# Altium footprint library chicken.PcbLib: 11 footprints
Each footprint in its own frame and in the unit in brackets; x right, y up, seen from the top. Pads: shape width x height; smd on the part's side, far side on the other; paste and mask are expansions set on the pad; w line width, h text height; cw(c..) or ccw(c..) is an arc to the next point about the centre after c.
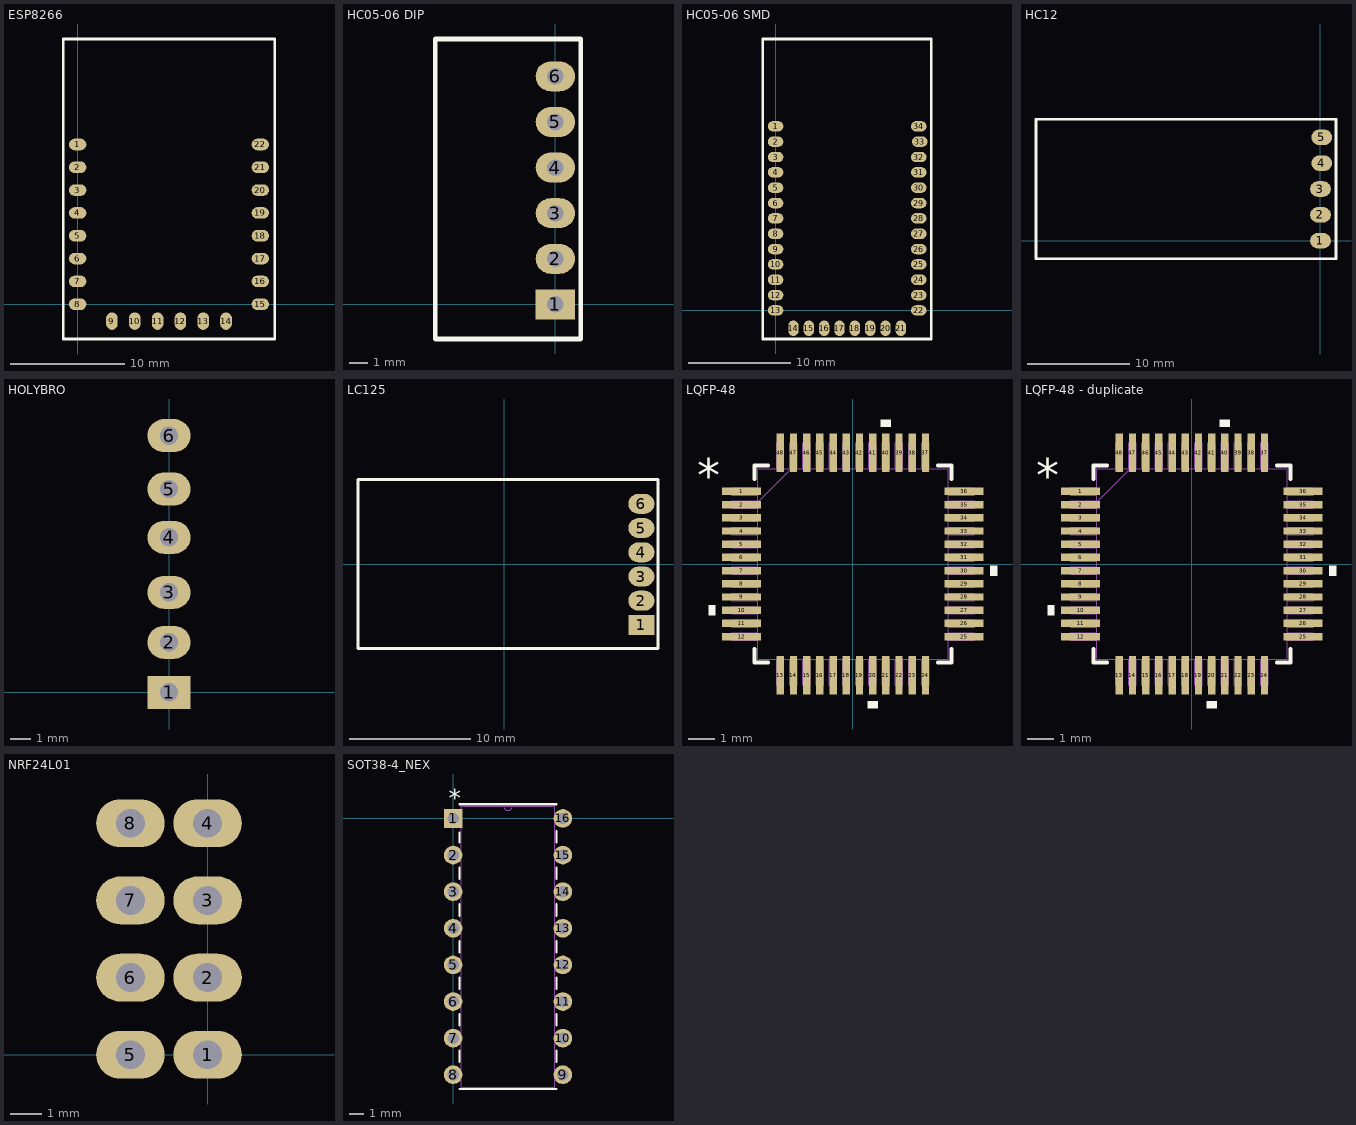
[diagram p0: the footprints below, top view; thin cyan lines are the x and y axes]

## ESP8266 [mil]
pads (22):
  oval 60x40 smd: 1(0,551.18) 2(0,472.44) 3(0,393.7) 4(0,314.96) 5(0,236.22) 6(0,157.48) 7(0,78.74) 8(0,0) 15(629.92,0) 16(629.92,78.74) 17(629.92,157.48) 18(629.92,236.22) 19(629.92,314.96) 20(629.92,393.7) 21(629.92,472.44) 22(629.92,551.18)
  oval 40x60 smd: 9(118.11,-58.27) 10(196.85,-58.27) 11(275.59,-58.27) 12(354.33,-58.27) 13(433.07,-58.27) 14(511.81,-58.27)
Top Overlay:
  lines w10: -50,-120 -50,915 -25,915 680,915 680,-120 -50,-120
3D body "EPS8266 ESP-12F.STEP": height 104.33, standoff -1.38, extent -5.16,-62.63 625.16,882.44

## HC05-06 DIP [mil]
pads (6):
  rect 85x65 hole 36: 1(0,0)
  oval 85x65 hole 36: 2(0,98.82) 3(0,197.64) 4(0,296.46) 5(0,395.28) 6(0,494.09)
Top Overlay:
  lines w10: -260,-75 -260,565 -260,575 30,575 55,575 55,-75 -260,-75
3D body "HC-05.STEP": height 1633.86, standoff -42.65, extent -247.87,-64.96 10,564.96

## HC05-06 SMD [mil]
pads (34):
  oval 60x40 smd: 1(0,708.66) 2(0,649.61) 3(0,590.55) 4(0,531.5) 5(0,472.44) 6(0,413.39) 7(0,354.33) 8(0,295.28) 9(0,236.22) 10(0,177.17) 11(0,118.11) 12(0,59.06) 13(0,0) 22(551.18,0) 23(551.18,59.06) 24(551.18,118.11) 25(551.18,177.17) 26(551.18,236.22) 27(551.18,295.28) 28(551.18,354.33) 29(551.18,413.39) 30(551.18,472.44) 31(551.18,531.5) 32(551.18,590.55) 33(555,649.61) 34(551.18,708.66)
  oval 40x60 smd: 14(68.9,-68.9) 15(127.95,-68.9) 16(187.01,-68.9) 17(246.06,-68.9) 18(305.12,-68.9) 19(364.17,-68.9) 20(423.23,-68.9) 21(482.28,-68.9)
Top Overlay:
  lines w10: -50,-110 -50,1045 -25,1045 600,1045 600,-100 600,-110 -50,-110
3D body "Bluetooth HC-06_.STEP": height 92.52, standoff 0, extent 0,-70 551.97,1032.76

## HC12 [mil] "HC12"
pads (5):
  oval 80x60 smd: 1(0,0) 2(0,100) 3(0,200) 4(5,300) 5(5,400)
Top Overlay:
  lines w10: -1100,-70 -1100,470 60,470 60,-70 -1100,-70
3D body "HC-12 SI4463 WIRELESS SERIAL MODULE.STEP": height 1019.68, standoff 0, extent -1090.46,-61.81 0,461.81

## HOLYBRO [mil]
pads (6):
  rect 85x65 hole 36: 1(0,0)
  oval 85x65 hole 36: 2(0,98.43) 3(0,196.85) 4(0,305) 5(0,400) 6(0,505)
3D body "JST - XH - Thru (V) - 6Pin - 2.54mm.stp": height 303.69, standoff -98.31, extent -100,-92 130,592

## LC125 [mil]
pads (6):
  rect 85x65 smd: 1(446.22,-198.11)
  oval 85x65 smd: 2(446.22,-119.37) 3(446.22,-40.63) 4(446.22,38.11) 5(446.22,116.85) 6(446.22,195.59)
Top Overlay:
  lines w10: -475,-275 -475,275 500,275 500,-275 -475,-275
3D body "LC12S.STEP": height 78.74, standoff 0, extent -473.31,-268.08 444.01,271.3

## LQFP-48 [mil]
pads (48):
  rect 58x11 smd: 1(-166,108.27) 2(-166,88.58) 3(-166,68.9) 4(-166,49.21) 5(-166,29.53) 6(-166,9.84) 7(-166,-9.84) 8(-166,-29.53) 9(-166,-49.21) 10(-166,-68.9) 11(-166,-88.58) 12(-166,-108.27) 25(166,-108.27) 26(166,-88.58) 27(166,-68.9) 28(166,-49.21) 29(166,-29.53) 30(166,-9.84) 31(166,9.84) 32(166,29.53) 33(166,49.21) 34(166,68.9) 35(166,88.58) 36(166,108.27)
  rect 11x58 smd: 13(-108.27,-166) 14(-88.58,-166) 15(-68.9,-166) 16(-49.21,-166) 17(-29.53,-166) 18(-9.84,-166) 19(9.84,-166) 20(29.53,-166) 21(49.21,-166) 22(68.9,-166) 23(88.58,-166) 24(108.27,-166) 37(108.27,166) 38(88.58,166) 39(68.9,166) 40(49.21,166) 41(29.53,166) 42(9.84,166) 43(-9.84,166) 44(-29.53,166) 45(-49.21,166) 46(-68.9,166) 47(-88.58,166) 48(-108.27,166)
Top Overlay:
  region: 56.71,205 41.71,205 41.71,215 56.71,215
  region: 205,-2.34 215,-2.34 215,-17.34 205,-17.34
  region: 37.03,-205 22.03,-205 22.03,-215 37.03,-215
  region: -205,-61.4 -215,-61.4 -215,-76.4 -205,-76.4
  lines w6: -147,-126.87 -147,-147 -126.87,-147 ; -147,126.87 -147,147 -126.87,147 ; 126.87,-147 147,-147 147,-126.87 ; 126.87,147 147,147 147,126.87
  text "*" at -232.5,108.11 h50
Mechanical 13:
  drawing of 197 lines, arcs and shapes, not listed
  text "*" at -139.5,93.11 h50
3D body "LQFP-48.step": height 63.11, standoff 0, extent -180.98,-180.98 180.99,180.99
3D body: height 10, standoff 0, extent 0,0 10,10

## LQFP-48 - duplicate [mil]
pads (48):
  rect 58x11 smd: 1(-166,108.27) 2(-166,88.58) 3(-166,68.9) 4(-166,49.21) 5(-166,29.53) 6(-166,9.84) 7(-166,-9.84) 8(-166,-29.53) 9(-166,-49.21) 10(-166,-68.9) 11(-166,-88.58) 12(-166,-108.27) 25(166,-108.27) 26(166,-88.58) 27(166,-68.9) 28(166,-49.21) 29(166,-29.53) 30(166,-9.84) 31(166,9.84) 32(166,29.53) 33(166,49.21) 34(166,68.9) 35(166,88.58) 36(166,108.27)
  rect 11x58 smd: 13(-108.27,-166) 14(-88.58,-166) 15(-68.9,-166) 16(-49.21,-166) 17(-29.53,-166) 18(-9.84,-166) 19(9.84,-166) 20(29.53,-166) 21(49.21,-166) 22(68.9,-166) 23(88.58,-166) 24(108.27,-166) 37(108.27,166) 38(88.58,166) 39(68.9,166) 40(49.21,166) 41(29.53,166) 42(9.84,166) 43(-9.84,166) 44(-29.53,166) 45(-49.21,166) 46(-68.9,166) 47(-88.58,166) 48(-108.27,166)
Top Overlay:
  region: -205,-61.4 -215,-61.4 -215,-76.4 -205,-76.4
  region: 37.03,-205 22.03,-205 22.03,-215 37.03,-215
  region: 205,-2.34 215,-2.34 215,-17.34 205,-17.34
  region: 56.71,205 41.71,205 41.71,215 56.71,215
  lines w6: -147,-126.87 -147,-147 -126.87,-147 ; -147,126.87 -147,147 -126.87,147 ; 126.87,-147 147,-147 147,-126.87 ; 126.87,147 147,147 147,126.87
  text "*" at -232.5,108.11 h50
Mechanical 13:
  drawing of 197 lines, arcs and shapes, not listed
  text "*" at -139.5,93.11 h50
3D body: height 10, standoff 0, extent 0,0 10,10

## NRF24L01 [mil]
pads (8):
  oval 86x60 hole 36: 1(0,0) 2(0,96.85) 3(0,193.7) 4(0,290.55) 5(-96.85,0) 6(-96.85,96.85) 7(-96.85,193.7) 8(-96.85,290.55)
3D body "NRF24l01_with_antenna.STEP": height 3757.81, standoff -127.56, extent -2823.39,-155 90,445.4

## PCBComponent_1 [mil]

## SOT38-4_NEX [mil]
pads (16):
  rect 51x51 hole 31 mask+0: 1(0,0)
  round 51 hole 31 mask+0: 2(0,-100) 3(0,-200) 4(0,-300) 5(0,-400) 6(0,-500) 7(0,-600) 8(0,-700) 9(300,-700) 10(300,-600) 11(300,-500) 12(300,-400) 13(300,-300) 14(300,-200) 15(300,-100) 16(300,0)
Top Overlay:
  lines w6: 17.5,-739 282.5,-739 ; 17.5,-665.59 17.5,-634.41 ; 17.5,-565.59 17.5,-534.41 ; 17.5,-465.59 17.5,-434.41 ; 17.5,-365.59 17.5,-334.41 ; 17.5,-265.59 17.5,-234.41 ; 17.5,-165.59 17.5,-134.41 ; 17.5,-65.59 17.5,-38.6 ; 17.5,39 282.5,39 ; 282.5,-665.59 282.5,-634.41 ; 282.5,-565.59 282.5,-534.41 ; 282.5,-465.59 282.5,-434.41 ; 282.5,-365.59 282.5,-334.41 ; 282.5,-265.59 282.5,-234.41 ; 282.5,-165.59 282.5,-134.41 ; 282.5,-65.59 282.5,-34.41
  text "*" at -12.5,30.5 h50
Mechanical 13:
  lines w0: 138,34 ccw(c150,34) 162,34
  lines w1: -15.5,-715.5 22.5,-715.5 22.5,-684.5 -15.5,-684.5 -15.5,-715.5 ; -15.5,-615.5 22.5,-615.5 22.5,-584.5 -15.5,-584.5 -15.5,-615.5 ; -15.5,-515.5 22.5,-515.5 22.5,-484.5 -15.5,-484.5 -15.5,-515.5 ; -15.5,-415.5 22.5,-415.5 22.5,-384.5 -15.5,-384.5 -15.5,-415.5 ; -15.5,-315.5 22.5,-315.5 22.5,-284.5 -15.5,-284.5 -15.5,-315.5 ; -15.5,-215.5 22.5,-215.5 22.5,-184.5 -15.5,-184.5 -15.5,-215.5 ; -15.5,-115.5 22.5,-115.5 22.5,-84.5 -15.5,-84.5 -15.5,-115.5 ; -15.5,-15.5 22.5,-15.5 22.5,15.5 -15.5,15.5 -15.5,-15.5 ; 22.5,-734 22.5,34 277.5,34 277.5,-734 22.5,-734 ; 277.5,-715.5 315.5,-715.5 315.5,-684.5 277.5,-684.5 277.5,-715.5 ; 277.5,-615.5 315.5,-615.5 315.5,-584.5 277.5,-584.5 277.5,-615.5 ; 277.5,-515.5 315.5,-515.5 315.5,-484.5 277.5,-484.5 277.5,-515.5 ; 277.5,-415.5 315.5,-415.5 315.5,-384.5 277.5,-384.5 277.5,-415.5 ; 277.5,-315.5 315.5,-315.5 315.5,-284.5 277.5,-284.5 277.5,-315.5 ; 277.5,-215.5 315.5,-215.5 315.5,-184.5 277.5,-184.5 277.5,-215.5 ; 277.5,-115.5 315.5,-115.5 315.5,-84.5 277.5,-84.5 277.5,-115.5 ; 277.5,-15.5 315.5,-15.5 315.5,15.5 277.5,15.5 277.5,-15.5
  text "*" at 20,-25 h50
3D body: height 10, standoff 0, extent 0,0 10,10
3D body: height 10, standoff 0, extent -4.99,-734.01 315,34.02